# Altium footprint library PCB - CONNECTOR - CUI - CUI MJ-2523-SMT.PCBLIB: 1 footprints
Each footprint in its own frame and in the unit in brackets; x right, y up, seen from the top. Pads: shape width x height; smd on the part's side, far side on the other; paste and mask are expansions set on the pad; w line width, h text height; cw(c..) or ccw(c..) is an arc to the next point about the centre after c.
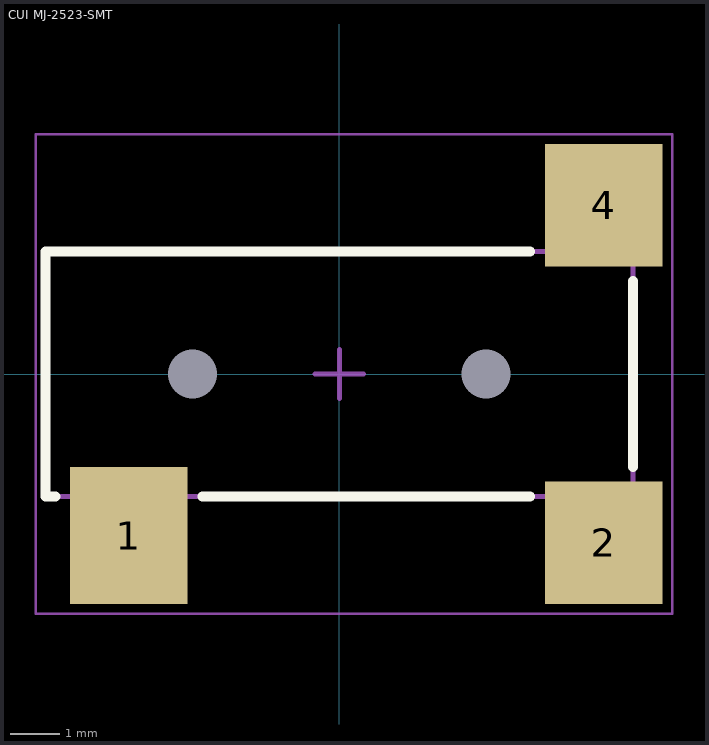
[diagram p0: the footprint, top view; thin cyan lines are the x and y axes]

## CUI MJ-2523-SMT [mm] "CONN JACK MONO 2.5MM SMD R/A"
height 4.8
pads (5):
  rect 2.4x2.8 smd: 1(-4.3,-3.3)
  rect 2.4x2.5 smd: 2(5.4,-3.45) 4(5.4,3.45)
  round 0 hole 1 unplated: M(-3,0) M(3,0)
Top Overlay:
  lines w0.2: -5.8,-2.5 -6,-2.5 -6,2.5 3.9,2.5 ; -2.8,-2.5 3.9,-2.5 ; 6,-1.9 6,1.9
Mechanical 13:
  lines w0.1: -6,-2.5 -6,2.5 6,2.5 6,-2.5 -6,-2.5
Mechanical 15:
  lines w0.05: -6.2,-4.9 -6.2,4.9 6.8,4.9 6.8,-4.9 -6.2,-4.9
  lines w0.1: -0.5,0 0.5,0 ; 0,-0.5 0,0.5
3D body "CUI - MJ-2523-SMT-TR.step": height 4.5, standoff -0.8, extent -7.5,-4 6,4